# Altium integrated library UPW1V101MPD.IntLib: 1 symbol
Pins are listed as number, name and electrical type; pins without a type are passive.

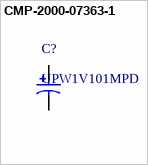
[diagram p0: symbol CMP-2000-07363-1]

## CMP-2000-07363-1
designator C?, comment UPW1V101MPD
Aluminum Electrolytic Capacitor, 100 uF, +/- 20%, 35 V, -55 to 105 degC, 2-Pin THD, RoHS, Bulk; Manufacturer: Nichicon; Voltage, Rating: 35VDC; Tolerance: -20,+20%; Configuration: Radial,Can; Capacitance: 100μF; Temperature, Operating, Minimum: -55Deg.C; Brand/Series: UPWSeries; Mounting Technology: ThroughHole; Datasheet URL: http://nichicon-us.com/english/products/pdfs/e-upw.pdf; Mounting Type: PCB; Manufacturer URL: http://www.nichicon.co.jp/english/; Material, Element: AluminumElectrolytic; Package Reference: CAPPR60-350-1150X800X1300; Package Description: 2-Pin Through Hole Device, Dia 8 mm, Body Length 11.5 mm; Case Size: 0.315In.Dia.x0.453In.L(8mmDia.x11.5mmL); Lead Spacing: 0.138In.(3.50mm)mm; Datasheet Version: 08/2015; Termination: Through-hole
footprint CAPPR60-350-1150X800X1300 (THD, 2-Leads, Dia 8mm, Body Length 11.5mm)
pins: 1, 2